# EAGLE library part TPS2115-TSSOP8 (library Neel)
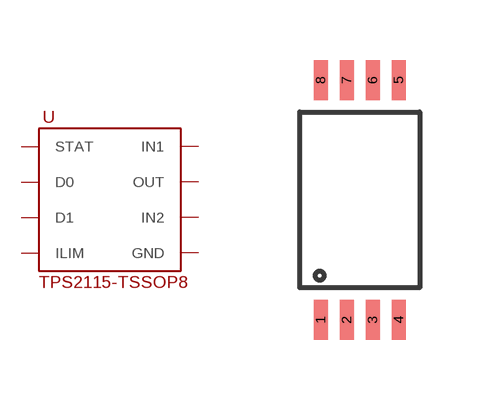
[diagram p47: symbol with the pads of TSSOP-8; footprint TSSOP-8]

Designator prefix U

## TPS2115-TSSOP8  [TSSOP-8]
1  STAT
2  D0
3  D1
4  ILIM
5  GND
6  IN2
7  OUT
8  IN1

## Footprint TSSOP-8 (pad centres in mm)
smd 0.35 x 1: 1 -0.975,-3; 2 -0.325,-3; 3 0.325,-3; 4 0.975,-3; 5 0.975,3; 6 0.325,3; 7 -0.325,3; 8 -0.975,3